# EAGLE library part TMC2208_SILENTSTEPSTICK (library TMC2208_SILENTSTEPSTICK)
TMC2208 Motor Controller/Driver, Stepper Power Management Evaluation Board Check prices <https://pricing.snapeda.com/parts/TMC2208%20SILENTSTEPSTICK/Trinamic%20Motion/view-part?ref=eda>
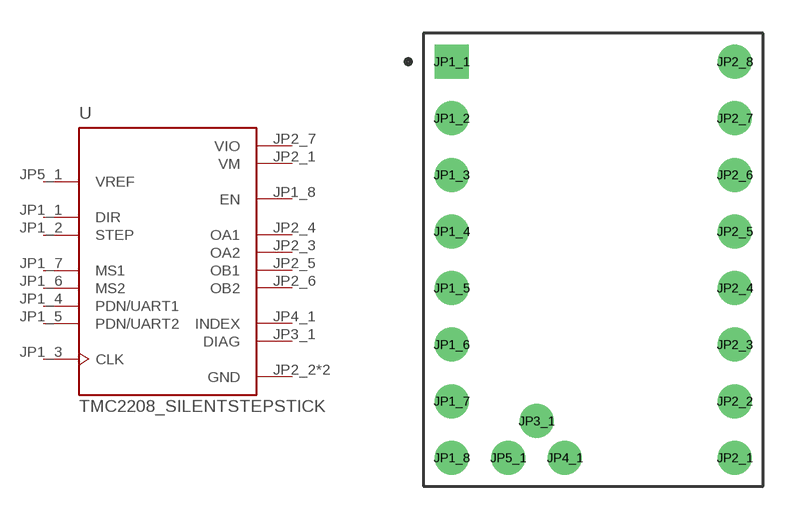
[diagram p0: symbol with the pads of MODULE_TMC2208_SILENTSTEPSTICK; footprint MODULE_TMC2208_SILENTSTEPSTICK]

Designator prefix U

## TMC2208_SILENTSTEPSTICK (Availability: In Stock; Description: TMC2208 Motor Controller/Driver, Stepper Power Management Evaluation Board; MF: Trinamic Motion; MP: TMC2208 SILENTSTEPSTICK; Package: None; Price: None)  [MODULE_TMC2208_SILENTSTEPSTICK]
JP1_1  DIR  in
JP1_2  STEP  in
JP1_3  CLK  in
JP1_4  PDN/UART1
JP1_5  PDN/UART2
JP1_6  MS2  in
JP1_7  MS1  in
JP1_8  EN  in
JP2_1  VM  pwr
JP2_2  GND  pwr
JP2_3  OA2  pas
JP2_4  OA1  pas
JP2_5  OB1  pas
JP2_6  OB2  pas
JP2_7  VIO  pwr
JP2_8  GND  pwr
JP3_1  DIAG  out
JP4_1  INDEX  out
JP5_1  VREF  in

## Footprint MODULE_TMC2208_SILENTSTEPSTICK (pad centres in mm)
drill 1.016 square: JP1_1 -6.35,8.89
drill 1.016: JP1_2 -6.35,6.35; JP1_3 -6.35,3.81; JP1_4 -6.35,1.27; JP1_5 -6.35,-1.27; JP1_6 -6.35,-3.81; JP1_7 -6.35,-6.35; JP1_8 -6.35,-8.89; JP2_1 6.35,-8.89; JP2_2 6.35,-6.35; JP2_3 6.35,-3.81; JP2_4 6.35,-1.27; JP2_5 6.35,1.27; JP2_6 6.35,3.81; JP2_7 6.35,6.35; JP2_8 6.35,8.89; JP3_1 -2.54,-7.239; JP4_1 -1.27,-8.89; JP5_1 -3.81,-8.89